# EAGLE library part B4050 (library jobygnss)
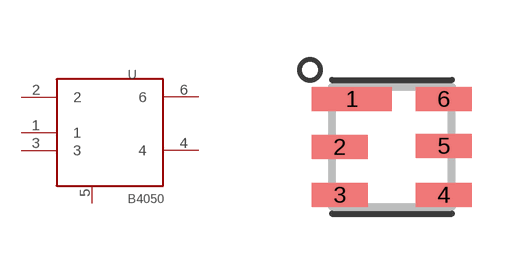
[diagram p12: symbol with the pads of B4050; footprint B4050]

Designator prefix -

## B4050  [B4050]
1  1  pwr
2  2  in
3  3  pwr
4  4  out
5  5  pwr
6  6  out

## Footprint B4050 (pad centres in mm)
smd 2 x 0.6: 1 -1,1.2
smd 1.4 x 0.6: 2 -1.3,0; 3 -1.3,-1.2; 4 1.3,-1.2; 5 1.3,0.025; 6 1.3,1.2